# Altium schematic symbol library DM1098FFC.SchLib: 4 symbols
Pins are listed as number, name and electrical type; pins without a type are passive.

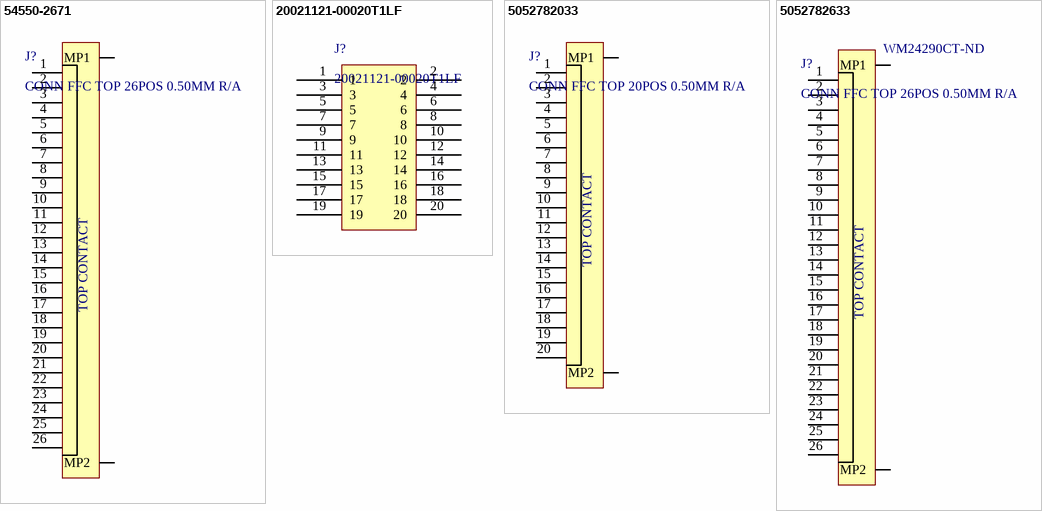
[diagram p0: symbols 54550-2671 to 5052782633]

## 54550-2671
designator J?, comment CONN FFC TOP 26POS 0.50MM R/A
Manufacturer 1: Molex; Manufacturer Part Number 1: 54550-2671; Actuator Material: Polyphenylene; Current Rating: 500mA; Voltage Rating: 50V; Contact Resistance: 40mR; Number of Positions: 26; Wire/Cable Type: Straight; Mating Cycles: 20; Pitch: 0.5mm; Supplier 1: Digi-Key; Stock 1: 6245; Pricing 1: 1=2.84000, 10=2.72700, 25=2.50000, 50=2.38620, 100=2.27260, 250=1.98852 (USD); RoHS: Yes; Mount: Surface Mount; Contact Material: Bronze; Contact Plating: Gold; Housing Material: Polymer; Housing Color: Natural; Min Operating Temperature: -20°C; Max Operating Temperature: 85°C; Packaging: Tape and Reel; Package Quantity: 750; Number of Rows: 1; Termination: Solder; Number of Contacts: 26; Orientation: Right Angle; Length: 18.2mm; Depth: 5mm; Flammability Rating: UL94 V-0; ComponentLink1URL: https://datasheet.ciiva.com/5136/0545502671-ffc-fpc-connectors-228748-5136548.pdf?src-supplier=Mouser; ComponentLink1Description: https://datasheet.ciiva.com/5136/0545502671-ffc-fpc-connectors-228748-5136548.pdf?src-supplier=Mouser; ComponentLink2URL: https://datasheet.ciiva.com/3925/24240545502671-ffc-fpc-nectors-3925432.pdf?src-supplier=Arrow; ComponentLink2Description: https://datasheet.ciiva.com/3925/24240545502671-ffc-fpc-nectors-3925432.pdf?src-supplier=Arrow; ComponentLink3URL: https://datasheet.ciiva.com/16659/0545502671-ffc-fpc-connectors-16659849.pdf?src-supplier=Avnet+Europe; ComponentLink3Description: https://datasheet.ciiva.com/16659/0545502671-ffc-fpc-connectors-16659849.pdf?src-supplier=Avnet+Europe; ComponentLink4URL: https://datasheet.ciiva.com/15177/getdatasheetpartid-704282-15177102.pdf?src-supplier=Verical; ComponentLink4Description: https://datasheet.ciiva.com/15177/getdatasheetpartid-704282-15177102.pdf?src-supplier=Verical; ComponentLink5URL: https://datasheet.ciiva.com/15245/285330545502671-ffc-fpc-nectors-15245807.pdf?src-supplier=Arrow+Europe; ComponentLink5Description: https://datasheet.ciiva.com/15245/285330545502671-ffc-fpc-nectors-15245807.pdf?src-supplier=Arrow+Europe; ComponentLink6URL: https://datasheet.ciiva.com/10366/0545502671-ffc-fpc-connectors-10366875.pdf?src-supplier=Avnet; ComponentLink6Description: https://datasheet.ciiva.com/10366/0545502671-ffc-fpc-connectors-10366875.pdf?src-supplier=Avnet; Supplier 2: Digi-Key; Supplier 3: Mouser; Supplier 4: Arrow; Supplier Part Number 1: WM8809CT-ND; Supplier Part Number 2: WM8809TR-ND; Supplier Part Number 3: 538-54550-2671; Supplier Part Number 4: 54550-2671
footprint 54550-2671 (26pin Molex FFC 0.5mm TOP)
pins: 1, 2, 3, 4, 5, 6, 7, 8, 9, 10, 11, 12, 13, 14, 15, 16, 17, 18, 19, 20, 21, 22, 23, 24, 25, 26, MP1, MP2
text: TOP CONTACT

## 20021121-00020T1LF
designator J?
Conn Unshrouded Header HDR 20 POS 1.27mm Solder ST SMD Tube; Manufacturer 1: Amphenol FCI; Contact Resistance: 30mR; Number of Positions: 20; Max Voltage Rating (AC): 125V; Connector Type: Male Pin; Row Spacing: 0.05inch; Supplier 1: Avnet; Manufacturer Part Number 1: 20021121-00020T1LF; Stock 1: 0; Pricing 1: 1840=0.65487, 3680=0.63909, 7360=0.62487, 11040=0.61127, 18400=0.60354 (USD); RoHS: Yes; Mount: Surface Mount; Contact Plating: Gold; Contact Material: Copper Alloy; Color: Black; Housing Color: Black; Housing Material: Thermoplastic; Min Operating Temperature: -40°C; Max Operating Temperature: 85°C; Packaging: Rail/Tube; Package Quantity: 46; Number of Rows: 2; Termination: Solder; Number of Contacts: 20; Orientation: Straight; Length: 12.7mm; Pitch: 1.27mm; Contact Mating Length: 0.12inch; Depth: 3.4mm; ComponentLink1URL: https://datasheet.ciiva.com/18660/20021121-18660311.pdf?src-supplier=Digi-Key; ComponentLink1Description: https://datasheet.ciiva.com/18660/20021121-18660311.pdf?src-supplier=Digi-Key; ComponentLink2URL: https://datasheet.ciiva.com/10033/20021121-10033355.pdf?src-supplier=Avnet; ComponentLink2Description: https://datasheet.ciiva.com/10033/20021121-10033355.pdf?src-supplier=Avnet; Supplier Part Number 1: 20021121-00020T1LF
footprint 20021121-00020T1LF (20pin SMT Minitek127 1.27mm pitch)
pins: 1, 2, 3, 4, 5, 6, 7, 8, 9, 10, 11, 12, 13, 14, 15, 16, 17, 18, 19, 20

## 5052782033
designator J?, comment CONN FFC TOP 20POS 0.50MM R/A
0.5 Ffc Zif Btm Cont Embt Pkg 0.5 Fpc Zif Btm FS19; Manufacturer 1: Molex; Manufacturer Part Number 1: 505278-2033; Actuator Material: Nylon,Glass,Polyamide; Number of Positions: 20; Voltage Rating: 50V; Current Rating: 500mA; Pitch: 0.02inch; Supplier 1: Digi-Key; RoHS: Yes; Category: Connectors; Stock 1: 13841; Pricing 1: 1=0,71000, 10=0,59800, 100=0,46540, 1000=0,36564 (USD); Mount: Surface Mount; Contact Plating: Tin; Contact Material: Bronze; Housing Material: Polymer; Min Operating Temperature: -40°C; Max Operating Temperature: 85°C; Packaging: Tape and Reel; Termination: Solder; Flammability Rating: UL94 V-0; ComponentLink1URL: http://www.molex.com/pdm_docs/sd/5052782033_sd.pdf?src-supplier=Digi-Key; ComponentLink1Description: http://www.molex.com/pdm_docs/sd/5052782033_sd.pdf?src-supplier=Digi-Key
footprint 5052782033 (20pin Molex FFC 0.5mm TOP)
pins: 1, 2, 3, 4, 5, 6, 7, 8, 9, 10, 11, 12, 13, 14, 15, 16, 17, 18, 19, 20, MP1, MP2
text: TOP CONTACT

## 5052782633
designator J?, comment CONN FFC TOP 26POS 0.50MM R/A  Supplier Part Number 1: WM24290CT-ND
0.5 Ffc Zif Btm Cont Embt Pkg 0.5 Fpc Zif Btm FS19; Manufacturer 1: Molex; Manufacturer Part Number 1: 505278-2633; Actuator Material: Nylon,Glass,Polyamide; Number of Positions: 26; Voltage Rating: 50V; Current Rating: 500mA; Pitch: 0.02inch; Supplier 1: Digi-Key; RoHS: Yes; Category: Connectors; Stock 1: 8571; Pricing 1: 1=0,85000, 10=0,70400, 100=0,58660, 1000=0,46928 (USD); Mount: Surface Mount; Housing Material: Polymer; Contact Material: Bronze; Contact Plating: Tin; Min Operating Temperature: -40°C; Max Operating Temperature: 85°C; Packaging: Tape and Reel; Termination: Solder; Flammability Rating: UL94 V-0; ComponentLink1URL: http://www.molex.com/pdm_docs/sd/5052782633_sd.pdf?src-supplier=Digi-Key; ComponentLink1Description: http://www.molex.com/pdm_docs/sd/5052782633_sd.pdf?src-supplier=Digi-Key
footprint 5052782633 (26pin Molex FFC 0.5mm TOP)
pins: 1, 2, 3, 4, 5, 6, 7, 8, 9, 10, 11, 12, 13, 14, 15, 16, 17, 18, 19, 20, 21, 22, 23, 24, 25, 26, MP1, MP2
text: TOP CONTACT